# EAGLE library part MCP2551 (library usevolt)
MICROCHIP MCP2551-I/SN IC, CAN TRANSCEIVER, HI SPEED, SMD http://fi.farnell.com/microchip/mcp2551-i-sn/ic-can-transceiver-hi-speed-smd/dp/9758569
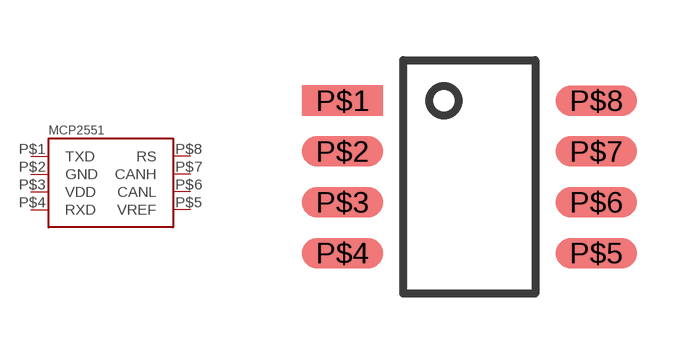
[diagram p20: symbol with the pads of SOIC8; footprint SOIC8]

Designator prefix U

## MCP2551SOIC8  [SOIC8]
P$1  TXD
P$2  GND
P$3  VDD
P$4  RXD
P$5  VREF
P$6  CANL
P$7  CANH
P$8  RS

## Footprint SOIC8 (pad centres in mm)
smd 2.032 x 0.762: P$1 -2.54,2.54; P$2 -2.54,1.27; P$3 -2.54,0; P$4 -2.54,-1.27; P$5 3.81,-1.27; P$6 3.81,0; P$7 3.81,1.27; P$8 3.81,2.54